# Altium footprint library ZMCT103C.PcbLib: 1 footprints
Each footprint in its own frame and in the unit in brackets; x right, y up, seen from the top. Pads: shape width x height; smd on the part's side, far side on the other; paste and mask are expansions set on the pad; w line width, h text height; cw(c..) or ccw(c..) is an arc to the next point about the centre after c.
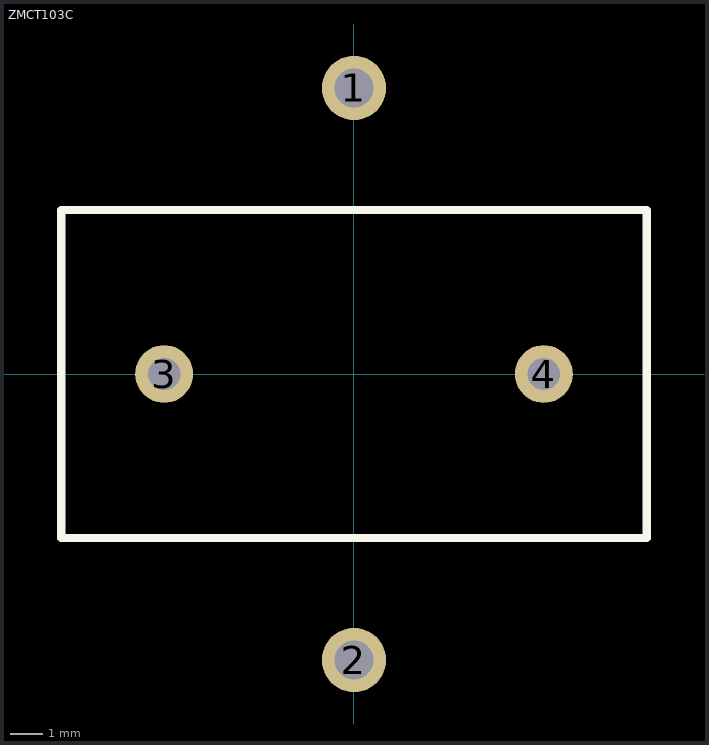
[diagram p0: the footprint, top view; thin cyan lines are the x and y axes]

## ZMCT103C [mm]
pads (4):
  round 2 hole 1.2: 1(0,8.89) 2(0,-8.89)
  round 1.8 hole 1: 3(-5.9,0) 4(5.9,0)
Top Overlay:
  lines w0.254: -9.1,-5.1 9.1,-5.1 9.1,5.1 -9.1,5.1 -9.1,-5.1